# Altium footprint library Seeed-OPL-ic.PCBLIB: 95 footprints (part 5 of 6)
Each footprint in its own frame and in the unit in brackets; x right, y up, seen from the top. Pads: shape width x height; smd on the part's side, far side on the other; paste and mask are expansions set on the pad; w line width, h text height; cw(c..) or ccw(c..) is an arc to the next point about the centre after c.
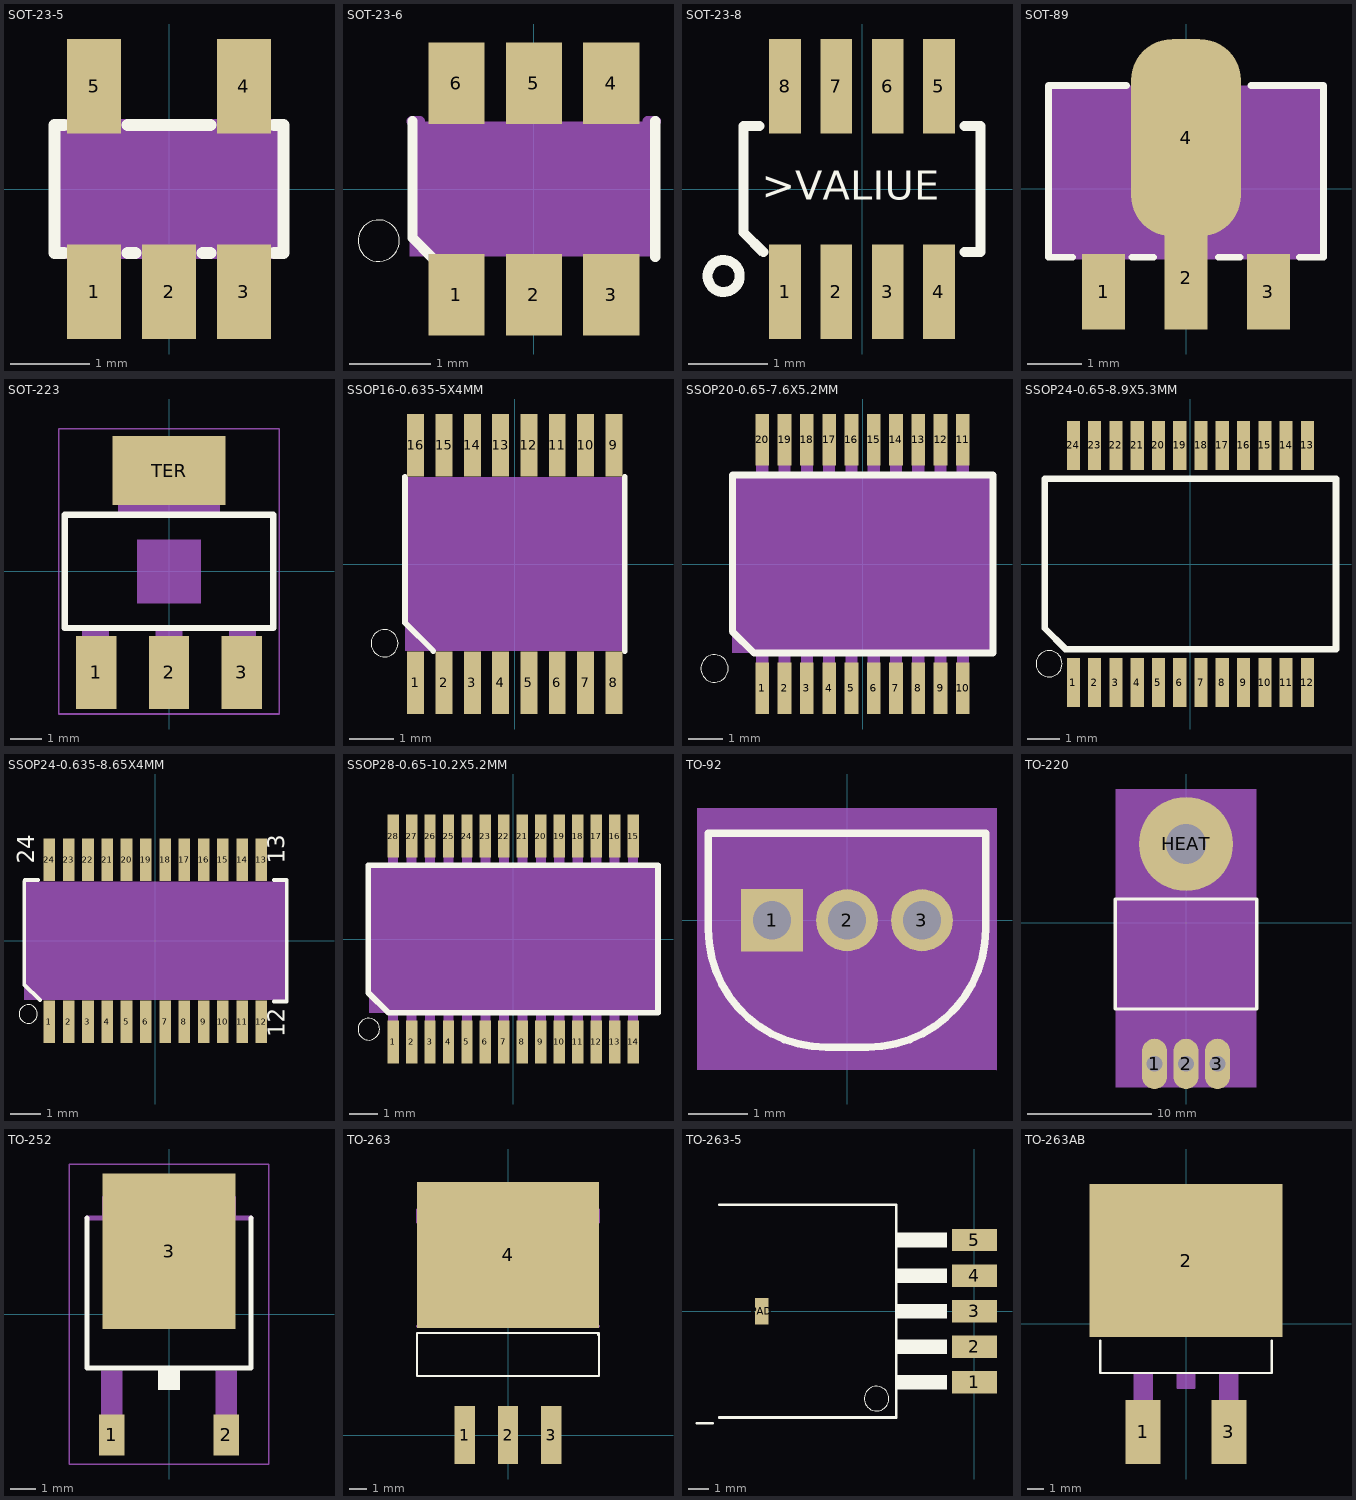
[diagram p4: the footprints below, top view; thin cyan lines are the x and y axes]

## SOT-23-5 [mm]
pads (5):
  rect 0.69x1.2 smd: 1(-0.95,-1.3) 2(0,-1.3) 3(0.95,-1.3) 4(0.95,1.3) 5(-0.95,1.3)
Top Overlay:
  lines w0.152: -1.328,-0.811 -1.45,-0.811 -1.45,0.811 -1.328,0.811 ; -0.522,-0.811 -0.427,-0.811 ; -0.522,0.811 0.522,0.811 ; 0.427,-0.811 0.522,-0.811 ; 1.328,-0.811 1.45,-0.811 1.45,0.811 1.328,0.811
Mechanical 16:
  rectangle: -1.2,-1.5 -0.7,-0.85
  rectangle: -0.25,-1.5 0.25,-0.85
  rectangle: 0.7,-1.5 1.2,-0.85
  rectangle: 0.7,0.85 1.2,1.5
  rectangle: -1.2,0.85 -0.7,1.5
  lines w0.152: -1.422,-0.811 1.422,-0.811 ; -1.422,0.811 1.422,0.811
Mechanical 27:
  rectangle: -1.397,-0.762 1.397,0.762

## SOT-23-6 [mm]
pads (6):
  rect 0.69x1 smd: 1(-0.95,-1.3) 2(0,-1.3) 3(0.95,-1.3) 4(0.95,1.3) 5(0,1.3) 6(-0.95,1.3)
Top Overlay:
  circle w0: c-1.905,-0.635 r0.254
  lines w0.127: -1.49,0.83 -1.49,-0.6 -1.26,-0.83 ; 1.49,-0.83 1.49,0.83
Mechanical 16:
  lines w0.127: -1.5,0.83 -1.4,0.83 ; 1.4,0.83 1.5,0.83
Mechanical 27:
  rectangle: -1.524,-0.83 1.524,0.83

## SOT-23-8 [mm]
pads (8):
  rect 0.4x1.2 smd: 1(-0.975,-1.3) 2(-0.325,-1.3) 3(0.325,-1.3) 4(0.975,-1.3) 5(0.975,1.3) 6(0.325,1.3) 7(-0.325,1.3) 8(-0.975,1.3)
Top Overlay:
  circle w0.127: c-1.752,-1.102 r0.203
  lines w0.127: -1.3,0.8 -1.5,0.8 -1.5,-0.55 -1.25,-0.8 ; 1.3,-0.8 1.5,-0.8 1.5,0.8 1.3,0.8
  text ">VALIUE" at -1.27,-0.254 h0.63

## SOT-89 [mil]
pads (4):
  rect 31.5x55.12 smd: 1(-60,-75) 3(60,-75)
  rect 31.5x74.8 smd: 2(0,-65)
  rrect75% 80x143.7 smd: 4(0,37.01)
Top Overlay:
  lines w5: -100,-50 -100,75 ; -98.43,-50 -82.68,-50 ; -98.43,75 -43.31,75 ; -39.37,-50 -23.62,-50 ; 23.62,-50 39.37,-50 ; 47.24,75 100,75 100,-50 ; 82.68,-50 98.43,-50
Top Paste:
  rectangle: -15.75,-105.51 15.75,-50.39
Top Solder:
  rectangle: -19.69,-109.45 19.69,-46.46
Mechanical 16:
  rectangle: -68,-83 -50,-50
  rectangle: 50,-83 68,-50
  rectangle: -11,-83 11,-50
  region: 0,0 10,0 10,10 0,10
  lines w5: -87.99,-49.02 87.99,-49.02 87.99,47.99 -87.99,47.99 -87.99,-49.02
  lines w7.87: -31,51 31,51 31,62 14,79 -14,79 -31,62 -31,51
Mechanical 27:
  rectangle: -100,-50 100,75

## SOT-223 [mil]
pads (4):
  rect 50x90 smd: 1(-90,-125) 2(0,-125) 3(90,-125)
  rect 140x85 smd: TER(0,125)
Top Overlay:
  lines w8: -129.02,-70 129.02,-70 129.02,70 -129.02,70 -129.02,-70
Mechanical 6:
  rectangle: -39.37,-39.37 39.37,39.37
Mechanical 16:
  rectangle: -63,71 63,144
  rectangle: -17,-144 17,-71
  rectangle: -108,-144 -74,-71
  rectangle: 74,-144 108,-71
  rectangle: -63,71 63,144
  rectangle: -17,-144 17,-71
  rectangle: -108,-144 -74,-71
  rectangle: 74,-144 108,-71
Mechanical 27:
  lines w2: -136.73,-176.5 136.73,-176.5 136.73,176.5 -136.73,176.5 -136.73,-176.5

## SSOP16-0.635-5X4MM [mil]
pads (16):
  rect 15x55 smd: 1(-87.5,-105) 2(-62.5,-105) 3(-37.5,-105) 4(-12.5,-105) 5(12.5,-105) 6(37.5,-105) 7(62.5,-105) 8(87.5,-105) 9(87.5,105) 10(62.5,105) 11(37.5,105) 12(12.5,105) 13(-12.5,105) 14(-37.5,105) 15(-62.5,105) 16(-87.5,105)
Top Overlay:
  circle w0: c-115,-70 r12
  lines w5: -97,77 -97,-51.94 -71.94,-77 ; 97,-77 97,77
Mechanical 27:
  rectangle: -97,-77 97,77

## SSOP20-0.65-7.6X5.2MM [mm]
pads (20):
  rect 0.4x1.5 smd: 1(-2.925,-3.625) 2(-2.275,-3.625) 3(-1.625,-3.625) 4(-0.975,-3.625) 5(-0.325,-3.625) 6(0.325,-3.625) 7(0.975,-3.625) 8(1.625,-3.625) 9(2.275,-3.625) 10(2.925,-3.625) 11(2.925,3.625) 12(2.275,3.625) 13(1.625,3.625) 14(0.975,3.625) 15(0.325,3.625) 16(-0.325,3.625) 17(-0.975,3.625) 18(-1.625,3.625) 19(-2.275,3.625) 20(-2.925,3.625)
Top Overlay:
  circle w0: c-4.318,-3.048 r0.4
  lines w0.127: -3.825,2.575 -3.8,2.575
  lines w0.203: -3.8,2.575 -3.8,-1.965 -3.165,-2.6 3.8,-2.6 3.8,2.6 -3.8,2.6
Mechanical 16:
  rectangle: -3.103,-3.937 -2.747,-2.642
  rectangle: -2.453,-3.937 -2.097,-2.642
  rectangle: -1.803,-3.937 -1.447,-2.642
  rectangle: -1.153,-3.937 -0.797,-2.642
  rectangle: -0.503,-3.937 -0.147,-2.642
  rectangle: 0.147,-3.937 0.503,-2.642
  rectangle: 0.797,-3.937 1.153,-2.642
  rectangle: 1.447,-3.937 1.803,-2.642
  rectangle: 2.097,-3.937 2.453,-2.642
  rectangle: 2.747,-3.937 3.103,-2.642
  rectangle: 2.747,2.642 3.103,3.937
  rectangle: 2.097,2.642 2.453,3.937
  rectangle: 1.447,2.642 1.803,3.937
  rectangle: 0.797,2.642 1.153,3.937
  rectangle: 0.147,2.642 0.503,3.937
  rectangle: -0.503,2.642 -0.147,3.937
  rectangle: -1.153,2.642 -0.797,3.937
  rectangle: -1.803,2.642 -1.447,3.937
  rectangle: -2.453,2.642 -2.097,3.937
  rectangle: -3.103,2.642 -2.747,3.937
Mechanical 27:
  rectangle: -3.81,-2.6 3.81,2.6

## SSOP24-0.65-8.9X5.3MM [mm]
pads (24):
  rect 0.4x1.5 smd: 1(-3.575,-3.625) 2(-2.925,-3.625) 3(-2.275,-3.625) 4(-1.625,-3.625) 5(-0.975,-3.625) 6(-0.325,-3.625) 7(0.325,-3.625) 8(0.975,-3.625) 9(1.625,-3.625) 10(2.275,-3.625) 11(2.925,-3.625) 12(3.575,-3.625) 13(3.575,3.625) 14(2.925,3.625) 15(2.275,3.625) 16(1.625,3.625) 17(0.975,3.625) 18(0.325,3.625) 19(-0.325,3.625) 20(-0.975,3.625) 21(-1.625,3.625) 22(-2.275,3.625) 23(-2.925,3.625) 24(-3.575,3.625)
Top Overlay:
  circle w0: c-4.318,-3.048 r0.4
  lines w0.203: -4.45,2.575 -4.45,-1.965 -3.815,-2.6 4.45,-2.6 4.45,2.6 -4.45,2.6

## SSOP24-0.635-8.65X4MM [mil]
pads (24):
  rect 15x55 smd: 1(-137.5,-105) 2(-112.5,-105) 3(-87.5,-105) 4(-62.5,-105) 5(-37.5,-105) 6(-12.5,-105) 7(12.5,-105) 8(37.5,-105) 9(62.5,-105) 10(87.5,-105) 11(112.5,-105) 12(137.5,-105) 13(137.5,105) 14(112.5,105) 15(87.5,105) 16(62.5,105) 17(37.5,105) 18(12.5,105) 19(-12.5,105) 20(-37.5,105) 21(-62.5,105) 22(-87.5,105) 23(-112.5,105) 24(-137.5,105)
Top Overlay:
  circle w0: c-165,-95 r12
  lines w5: -170.28,77 -170.28,-56.63 -149.9,-77 ; -169.29,78.74 -152.56,78.74 ; 153.54,-78.74 170.28,-78.74 ; 153.54,78.74 170.28,78.74 ; 170.28,-77 170.28,77
  text "12" at 175,-125 h37.2
  text "13" at 175,100 h37.2
  text "24" at -150,100 h37.2
Mechanical 27:
  rectangle: -170.28,-77 170.28,77

## SSOP28-0.65-10.2X5.2MM [mm]
pads (28):
  rect 0.4x1.5 smd: 1(-4.225,-3.625) 2(-3.575,-3.625) 3(-2.925,-3.625) 4(-2.275,-3.625) 5(-1.625,-3.625) 6(-0.975,-3.625) 7(-0.325,-3.625) 8(0.325,-3.625) 9(0.975,-3.625) 10(1.625,-3.625) 11(2.275,-3.625) 12(2.925,-3.625) 13(3.575,-3.625) 14(4.225,-3.625) 15(4.225,3.625) 16(3.575,3.625) 17(2.925,3.625) 18(2.275,3.625) 19(1.625,3.625) 20(0.975,3.625) 21(0.325,3.625) 22(-0.325,3.625) 23(-0.975,3.625) 24(-1.625,3.625) 25(-2.275,3.625) 26(-2.925,3.625) 27(-3.575,3.625) 28(-4.225,3.625)
Top Overlay:
  circle w0: c-5.08,-3.175 r0.381
  lines w0.203: -5.1,-1.89 -5.1,2.6 5.1,2.6 5.1,-2.6 -4.39,-2.6 -5.1,-1.89
Mechanical 16:
  rectangle: -4.403,-3.937 -4.047,-2.642
  rectangle: -3.753,-3.937 -3.397,-2.642
  rectangle: -3.103,-3.937 -2.747,-2.642
  rectangle: -2.453,-3.937 -2.097,-2.642
  rectangle: -1.803,-3.937 -1.447,-2.642
  rectangle: -1.153,-3.937 -0.797,-2.642
  rectangle: -0.503,-3.937 -0.147,-2.642
  rectangle: 0.147,-3.937 0.503,-2.642
  rectangle: 0.797,-3.937 1.153,-2.642
  rectangle: 1.447,-3.937 1.803,-2.642
  rectangle: 2.097,-3.937 2.453,-2.642
  rectangle: 2.747,-3.937 3.103,-2.642
  rectangle: 3.397,-3.937 3.753,-2.642
  rectangle: 4.047,-3.937 4.403,-2.642
  rectangle: 4.047,2.642 4.403,3.937
  rectangle: 3.397,2.642 3.753,3.937
  rectangle: 2.747,2.642 3.103,3.937
  rectangle: 2.097,2.642 2.453,3.937
  rectangle: 1.447,2.642 1.803,3.937
  rectangle: 0.797,2.642 1.153,3.937
  rectangle: 0.147,2.642 0.503,3.937
  rectangle: -0.503,2.642 -0.147,3.937
  rectangle: -1.153,2.642 -0.797,3.937
  rectangle: -1.803,2.642 -1.447,3.937
  rectangle: -2.453,2.642 -2.097,3.937
  rectangle: -3.103,2.642 -2.747,3.937
  rectangle: -3.753,2.642 -3.397,3.937
  rectangle: -4.403,2.642 -4.047,3.937
Mechanical 27:
  rectangle: -5.08,-2.6 5.08,2.6

## TO-92 [mm]
pads (3):
  rect 1.05x1.05 hole 0.65: 1(-1.27,0)
  round 1.05 hole 0.65: 2(0,0) 3(1.27,0)
Top Overlay:
  lines w0.127: -2.35,-0.15 -2.35,1.47 2.35,1.47 2.35,-0.15 cw(c0.35,-0.15) 0.35,-2.15 -0.35,-2.15 cw(c-0.35,-0.15) -2.35,-0.15
Mechanical 27:
  region: 2.54,1.905 -2.54,1.905 -2.54,-2.54 2.54,-2.54

## TO-220 [mil]
pads (4):
  oval 80x160 hole 50: 1(-100,-450) 2(0,-450) 3(100,-450)
  round 300 hole 126: HEAT(0,250)
Top Overlay:
  lines w10: -225,-275 225,-275 225,75 -225,75 -225,-275
Mechanical 27:
  rectangle: -225,-525 225,425

## TO-252 [mil]
pads (3):
  rect 40x65 smd: 1(-90,-190) 2(90,-190)
  rect 208.66x244.09 smd: 3(0,98.43)
Top Overlay:
  rectangle: -17,-119 17,-89
  lines w8: -129,151 -129.02,-85 129.02,-85 129,151
Mechanical 16:
  rectangle: -107,-203 -73,-89
  rectangle: 73,-203 107,-89
  region: 0,0 10,0 10,10 0,10
  lines w8: -129.02,150.98 129.03,150.97 ; -101,155 -101,183 -83,201 83,201 101,183 101,155 -101,155
Mechanical 27:
  lines w2: -156.42,-235.55 156.42,-235.55 156.42,235.55 -156.42,235.55 -156.42,-235.55

## TO-263 [mm]
pads (4):
  rect 1.2x3.4 smd: 1(-2.54,0) 2(0,0) 3(2.54,0)
  rect 10.7x8.6 smd: 4(0,10.6)
Top Overlay:
  lines w0.127: -5.35,6 -5.35,3.48 5.35,3.48 5.35,6 ; -5.3,6 5.3,6 5.3,5.9
Mechanical 16:
  lines w0.127: -5.35,6.4 5.35,6.4 ; -5.35,12.5 5.35,12.5 5.35,13.258 4.191,14.147 -4.191,14.147 -5.35,13.258 -5.35,12.5

## TO-263-5 [mm]
pads (6):
  rect 2.16x1.07 smd: 1(0,-3.4) 2(0,-1.7) 3(0,0) 4(0,1.7) 5(0,3.4)
  rect 0.635x1.27 smd: PAD(-10.16,0)
Top Layer:
  region: 0,0 0.254,0 0.254,0.254 0,0.254
Top Overlay:
  circle w0: c-4.68,-4.18 r0.585
  rectangle: -3.7,-3.75 -1.3,-3.05
  rectangle: -3.7,-2.05 -1.3,-1.35
  rectangle: -3.7,-0.35 -1.3,0.35
  rectangle: -3.7,1.35 -1.3,2.05
  rectangle: -3.7,3.05 -1.3,3.75
  region: 0,0 0.254,0 0.254,0.254 0,0.254
  lines w0.127: -13.258,-5.35 -12.5,-5.35 ; -12.2,-5.08 -3.74,-5.08 -3.74,5.08 -12.2,5.08
Top Paste:
  region: 0,0 0.254,0 0.254,0.254 0,0.254
Top Solder:
  region: 0,0 0.254,0 0.254,0.254 0,0.254

## TO-263AB [mm]
pads (3):
  rect 2.08x3.8 smd: 1(-2.54,-6.4) 3(2.54,-6.4)
  rect 11.43x9.05 smd: 2(0,3.75)
Top Overlay:
  lines w0.127: -5.08,-1 -5.08,-2.92 5.08,-2.92 5.08,-1
Mechanical 16:
  rectangle: -3.048,-7.493 -2.032,-2.921
  rectangle: -0.508,-3.81 0.508,-2.921
  rectangle: 2.032,-7.493 3.048,-2.921
  lines w0.127: -5.08,6.1 5.08,6.1 ; -5.08,6.1 -5.08,0 5.08,0 5.08,6.1 ; -5.08,6.1 -5.08,6.858 -4.191,7.747 4.191,7.747 5.08,6.858 5.08,6.1 ; -3.048,-7.493 -3.048,-2.921 -2.032,-2.921 -2.032,-7.493 -3.048,-7.493 ; -0.508,-3.81 -0.508,-2.921 0.508,-2.921 0.508,-3.81 -0.508,-3.81 ; 2.032,-7.493 3.048,-7.493 3.048,-2.921 2.032,-2.921 2.032,-7.493